# Altium footprint library D.PcbLib: 43 footprints (part 2 of 3)
Each footprint in its own frame and in the unit in brackets; x right, y up, seen from the top. Pads: shape width x height; smd on the part's side, far side on the other; paste and mask are expansions set on the pad; w line width, h text height; cw(c..) or ccw(c..) is an arc to the next point about the centre after c.
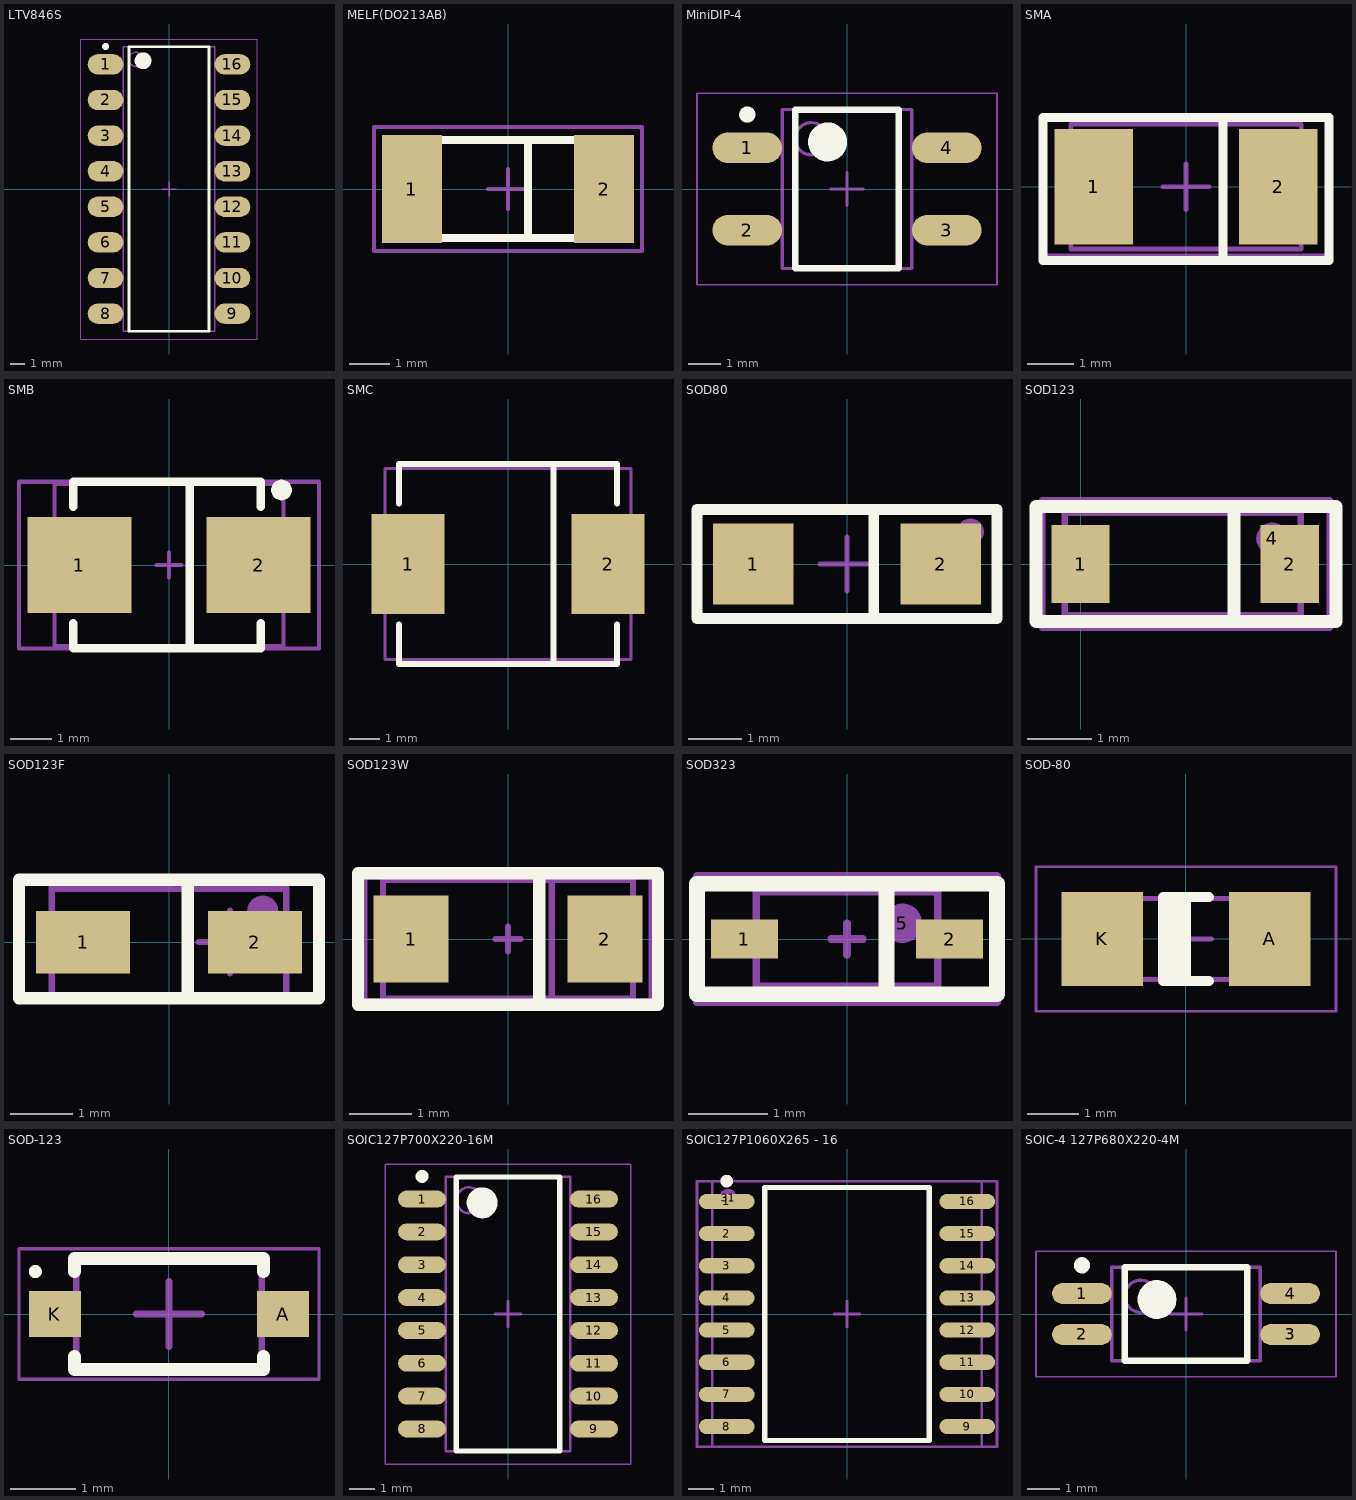
[diagram p1: the footprints below, top view; thin cyan lines are the x and y axes]

## LTV846S [mm] "SOP, 16-Leads, Body 19,84x6,25mm, Pitch 2,54mm, IPC Low Density"
height 4
pads (16):
  oval 2.55x1.45 smd: 1(-4.525,8.89) 2(-4.525,6.35) 3(-4.525,3.81) 4(-4.525,1.27) 5(-4.525,-1.27) 6(-4.525,-3.81) 7(-4.525,-6.35) 8(-4.525,-8.89) 9(4.525,-8.89) 10(4.525,-6.35) 11(4.525,-3.81) 12(4.525,-1.27) 13(4.525,1.27) 14(4.525,3.81) 15(4.525,6.35) 16(4.525,8.89)
Top Overlay:
  circle w0.6: c-1.85,9.15 r0.3
  circle w0.25: c-4.525,10.165 r0.125
  lines w0.2: -2.85,-10.15 2.85,-10.15 2.85,10.15 -2.85,10.15 -2.85,-10.15
3D:
  circle w0.1: c-2.35,9.25 r0.5
  lines w0.1: -3.25,-10.15 3.25,-10.15 3.25,10.15 -3.25,10.15 -3.25,-10.15
Border:
  lines w0.05: -6.3,-10.7 6.3,-10.7 6.3,10.7 -6.3,10.7 -6.3,-10.7
  lines w0.1: -0.5,0 0.5,0 ; 0,-0.5 0,0.5
3D body: height 4, standoff 0.1, extent -3.25,-10.15 3.25,10.15

## MELF(DO213AB) [mm]
height 2
pads (3):
  rect 1.5x2.7 smd: 1(-2.4,0) 2(2.4,0)
  round 0.5 on Mech1: ""(1.9,0.6)
Top Overlay:
  lines w0.2: 0.5,-1.225 0.5,1.225 ; -2.5,-1.225 -2.5,1.225 2.494,1.225 2.494,-1.225 2.467,-1.225 -2.5,-1.225
TopAssy:
  lines w0.1: 0.5,-1.25 0.5,1.2 ; -2.5,-1.25 2.5,-1.25 2.5,1.225 -2.5,1.225 -2.5,-1.25
Border:
  lines w0.1: -0.5,0 0.5,0 ; 0,-0.5 0,0.5 ; -3.35,-1.55 -3.35,1.55 3.35,1.55 3.35,-1.55 -3.35,-1.55
3D body "User Library-MELF.STEP": height 2.45, standoff -0.05, extent -2.513,-1.25 2.487,1.25

## MiniDIP-4 [mm] "SOP, 4-Leads, Body 4,70x3,80mm, Pitch 2,54mm, IPC Low Density"
height 3
pads (4):
  oval 2.15x0.95 smd: 1(-3.075,1.27) 2(-3.075,-1.27) 3(3.075,-1.27) 4(3.075,1.27)
Top Overlay:
  circle w0.25: c-3.075,2.295 r0.125
  circle w0.6: c-0.6,1.45 r0.3
  lines w0.2: -1.6,-2.45 -1.6,2.45 1.6,2.45 1.6,-2.45 -1.6,-2.45
3D:
  circle w0.1: c-1.1,1.55 r0.5
  lines w0.1: -2,-2.45 -2,2.45 2,2.45 2,-2.45 -2,-2.45
Border:
  lines w0.05: -4.625,-2.95 -4.625,2.95 4.625,2.95 4.625,-2.95 -4.625,-2.95
  lines w0.1: -0.5,0 0.5,0 ; 0,-0.5 0,0.5
3D body: height 3, standoff 0.2, extent -2,-2.45 2,2.45

## SMA [mm]
pads (3):
  rect 1.7x2.5 smd: 1(-2,0) 2(2,0)
  round 0.5 on Mech1: ""(2,0.9)
Top Overlay:
  lines w0.2: 0.8,-1.6 0.8,1.5 ; -3.1,-1.6 -3.1,1.5 3.1,1.5 3.1,-1.6 -3.1,-1.6
TopAssy:
  lines w0.1: -2.5,-1.35 -2.5,1.35 2.5,1.35 2.5,-1.35 -2.5,-1.35
Border:
  lines w0.1: -0.5,0 0.5,0 ; 0,-0.5 0,0.5 ; -3.1,-1.5 3.1,-1.5 3.1,1.5 -3.1,1.5 -3.1,-1.5
3D body "User Library-Diode Molded BodyDIOM5025X231N.STEP": height 2.28, standoff -0.03, extent -2.5,-1.35 2.5,1.35

## SMB [mm]
pads (3):
  rect 2.5x2.3 smd: 1(-2.15,0) 2(2.15,0)
  round 0.5 on Top Overlay: ""(2.7,1.8)
Top Overlay:
  lines w0.2: -2.3,-1.4 -2.3,-2 2.2,-2 2.2,-1.4 ; -2.3,1.4 -2.3,2 2.2,2 2.2,1.4 ; 0.5,-2 0.5,2
TopAssy:
  lines w0.1: 0.5,-1.95 0.5,1.95 ; -2.75,-1.95 2.75,-1.95 2.75,1.95 -2.75,1.95 -2.75,-1.95
Border:
  lines w0.1: -0.3,0 0.3,0 ; 0,-0.3 0,0.3 ; -3.6,-2 -3.6,2 3.6,2 3.6,-2 -3.6,-2
3D body "User Library-DIOM5539X24.STEP": height 2.45, standoff 0.03, extent -2.75,-1.95 2.75,1.95

## SMC [mm]
pads (2):
  rect 2.4x3.3 smd: 1(-3.3,0) 2(3.3,0)
Top Overlay:
  lines w0.2: -3.6,-2 -3.6,-3.3 3.6,-3.3 3.6,-2 ; -3.6,2 -3.6,3.3 3.6,3.3 3.6,2 ; 1.5,-3.3 1.5,3.3
TopAssy:
  lines w0.1: 1.5,-3.15 1.5,3.15 ; -4.064,-3.15 4.064,-3.15 4.064,3.15 -4.064,3.15 -4.064,-3.15
3D body "User Library-DO-214AB(SMC).STEP": height 2.67, standoff 0.03, extent -4.064,-3.15 4.064,3.15

## SOD80 [mm]
height 2
pads (3):
  rect 1.5x1.5 smd: 1(-1.75,0) 2(1.75,0)
  round 0.5 on Mech1: ""(2.3,0.6)
Top Overlay:
  lines w0.2: 0.5,-1.016 0.5,1 ; -2.794,-1.016 -2.794,1.016 2.794,1.016 2.794,-1.016 -2.794,-1.016
TopAssy:
  lines w0.1: 0.5,-1.016 0.5,1.016 ; -2.794,-1.016 -2.794,1.016 2.794,1.016 2.794,-1.016 -2.794,-1.016
Border:
  lines w0.1: -0.5,0 0.5,0 ; 0,-0.5 0,0.5 ; -2.794,-1.016 2.794,-1.016 2.794,1.016 -2.794,1.016 -2.794,-1.016
3D body "SOD80-2.step": height 1.52, standoff -0.02, extent -1.676,-0.777 1.677,0.762

## SOD123 [mm]
pads (3):
  rect 0.91x1.22 smd: 1(0,0) 2(3.275,0)
  round 0.5 on Mech1: 4(3,0.4)
Top Overlay:
  lines w0.2: 2.4,-0.9 2.4,0.9 ; -0.7,-0.9 4,-0.9 4,0.9 -0.7,0.9 -0.7,-0.9
TopAssy:
  lines w0.1: -0.249,-0.8 3.449,-0.8 3.449,0.8 -0.249,0.8 -0.249,-0.8
Border:
  lines w0.1: -0.6,-1 3.9,-1 3.9,1 -0.6,1 -0.6,-1
3D body "User Library-SOD-123.STEP": height 1.25, standoff 0, extent -0.249,-0.8 3.449,0.8

## SOD123F [mm] "Schottky Diode, 2-Leads, Body 3x2mm, 0.4W"
height 1
pads (3):
  rect 1.5x1 smd: 1(-1.375,0) 2(1.375,0)
  round 0.5 on Mech1: ""(1.5,0.5)
Top Overlay:
  lines w0.2: 0.3,-0.9 0.3,1 ; -2.4,-0.9 -2.4,1 2.3,1 2.4,1 2.4,-0.9 -2.4,-0.9
TopAssy:
  lines w0.1: -1.875,-0.85 1.875,-0.85 1.875,0.85 -1.875,0.85 -1.875,-0.85
Border:
  lines w0.1: 0.475,0 1.475,0 ; 0.975,-0.5 0.975,0.5 ; -1.875,-0.9 1.875,-0.9 1.875,0.9 -1.875,0.9 -1.875,-0.9
3D body "SOD123F.STEP": height 1.23, standoff 0.02, extent -1.875,-0.85 1.875,0.85

## SOD123W [mm]
pads (2):
  rect 1.2x1.4 smd: 1(-1.55,0) 2(1.55,0)
Top Overlay:
  lines w0.2: 0.5,-1.05 0.5,1.05 ; -2.4,-1.05 2.4,-1.05 2.4,1.05 -2.4,1.05 -2.4,-1.05
TopAssy:
  lines w0.1: 0.7,-0.95 0.7,0.95 ; 2,-0.95 -2,-0.95 -2,0.95 2,0.95 ; 2,-0.95 2,-0.95 ; 2,-0.95 2,0.95 ; 2,0.95 2,0.95
Border:
  lines w0.1: -0.2,0 0.2,0 ; 0,-0.2 0,0.2 ; -2.3,-1 -2.3,1 2.3,1 2.3,-1 -2.3,-1
3D body "User Library-SOD123W.STEP": height 1.1, standoff -0.01, extent -2,-0.95 2,0.95

## SOD323 [mm]
pads (3):
  rect 0.85x0.5 smd: 1(-1.3,0) 2(1.3,0)
  round 0.5 on Mech1: 5(0.7,0.2)
Top Overlay:
  lines w0.2: 0.5,-0.7 0.5,0.7 ; -1.9,-0.7 1.9,-0.7 1.9,0.7 -1.9,0.7 -1.9,-0.7
TopAssy:
  lines w0.1: -1.15,-0.6 -1.15,0.6 1.15,0.6 1.15,-0.6 -1.15,-0.6
Border:
  lines w0.1: -0.2,0 0.2,0 ; 0,-0.2 0,0.2 ; -1.9,-0.8 1.9,-0.8 1.9,0.8 -1.9,0.8 -1.9,-0.8
3D body "User Library-1N4148WS.STEP": height 1.04, standoff -0.06, extent -1.15,-0.6 1.15,0.6

## SOD-80 [mm] "MELF Diode, 2-Leads, Body 3,50x1,50mm, IPC Low Density"
height 1.6
pads (2):
  rect 1.6x1.85 smd: A(1.65,0) K(-1.65,0)
Top Overlay:
  rectangle: -0.45,-0.825 0.1,0.825
  lines w0.2: 0.45,-0.825 -0.45,-0.825 -0.45,0.825 0.45,0.825
3D:
  lines w0.1: -1.85,-0.8 -1.85,0.8 1.85,0.8 1.85,-0.8 -1.85,-0.8
Border:
  lines w0.05: -2.95,-1.425 -2.95,1.425 2.95,1.425 2.95,-1.425 -2.95,-1.425
  lines w0.1: -0.5,0 0.5,0 ; 0,-0.5 0,0.5
3D body: height 1.59, standoff 0, extent -1.85,-0.8 -1.38,0.797
3D body: height 1.58, standoff 0.04, extent -0.78,-0.771 -0.18,0.768
3D body: height 1.58, standoff 0.04, extent -1.38,-0.77 1.38,0.767
3D body: height 1.59, standoff 0, extent 1.38,-0.8 1.85,0.797

## SOD-123 [mm] "SODFL, 2-Leads, Body 1,55x3,70mm, IPC Medium Density"
height 1.35
pads (2):
  rect 0.8x0.7 smd: A(1.75,0) K(-1.75,0)
Top Overlay:
  circle w0.1: c-2.05,0.65 r0.05
  lines w0.2: -1.45,-0.65 -1.45,-0.85 1.45,-0.85 1.45,-0.65 ; -1.45,0.65 -1.45,0.85 1.45,0.85 1.45,0.65
3D:
  lines w0.1: -1.425,-0.85 -1.425,0.85 1.425,0.85 1.425,-0.85 -1.425,-0.85
Border:
  lines w0.05: -2.3,-1 -2.3,1 2.3,1 2.3,-1 -2.3,-1
  lines w0.1: -0.5,0 0.5,0 ; 0,-0.5 0,0.5
3D body: height 1.35, standoff 0, extent -1.425,-0.85 1.425,0.85

## SOIC127P700X220-16M [mm] "SOIC, 16-Leads, Body 10,30x4,60mm, Pitch 1,27mm, IPC Low Density"
height 2.2
pads (16):
  oval 1.85x0.65 smd: 1(-3.325,4.445) 2(-3.325,3.175) 3(-3.325,1.905) 4(-3.325,0.635) 5(-3.325,-0.635) 6(-3.325,-1.905) 7(-3.325,-3.175) 8(-3.325,-4.445) 9(3.325,-4.445) 10(3.325,-3.175) 11(3.325,-1.905) 12(3.325,-0.635) 13(3.325,0.635) 14(3.325,1.905) 15(3.325,3.175) 16(3.325,4.445)
Top Overlay:
  circle w0.6: c-1,4.3 r0.3
  circle w0.25: c-3.325,5.32 r0.125
  lines w0.2: -2,-5.3 2,-5.3 2,5.3 -2,5.3 -2,-5.3
3D:
  circle w0.1: c-1.5,4.4 r0.5
  lines w0.1: -2.4,-5.3 2.4,-5.3 2.4,5.3 -2.4,5.3 -2.4,-5.3
Border:
  lines w0.05: -4.75,-5.8 4.75,-5.8 4.75,5.8 -4.75,5.8 -4.75,-5.8
  lines w0.1: -0.5,0 0.5,0 ; 0,-0.5 0,0.5
3D body "SOIC127P700X220-16M.step": height 2.2, standoff 0, extent -3.5,-5.3 3.5,5.3

## SOIC127P1060X265 - 16 [mm] "Small Outline Integrated Circuit Pitch 1.27mm Pin Quantity 16"
height 2.65
pads (17):
  oval 2.2x0.6 smd: 1(-4.75,4.445) 2(-4.75,3.175) 3(-4.75,1.905) 4(-4.75,0.635) 5(-4.75,-0.635) 6(-4.75,-1.905) 7(-4.75,-3.175) 8(-4.75,-4.445) 9(4.75,-4.445) 10(4.75,-3.175) 11(4.75,-1.905) 12(4.75,-0.635) 13(4.75,0.635) 14(4.75,1.905) 15(4.75,3.175) 16(4.75,4.445)
  round 0.7 on Mech1: 31(-4.7,4.6)
Top Overlay:
  circle w0.25: c-4.75,5.25 r0.125
  lines w0.2: -3.25,-5 3.25,-5 3.25,5 -3.25,5 -3.25,-5
TopAssy:
  lines w0.1: -5.315,-5.25 -5.315,5.25 5.315,5.25 5.315,-5.25 -5.315,-5.25
Border:
  lines w0.1: -0.5,0 0.5,0 ; 0,-0.5 0,0.5 ; -5.925,-5.25 -5.925,5.25 5.925,5.25 5.925,-5.25 -5.925,-5.25
3D body "User Library-SOIC16_Wide_JEDEC_MS-013AA.STEP": height 2.62, standoff -0.03, extent -5.315,-5.25 5.315,5.25

## SOIC-4 127P680X220-4M [mm] "SOIC, 4-Leads, Body 2,60x4,40mm, Pitch 1,27mm, IPC Low Density"
height 2.2
pads (4):
  oval 1.85x0.65 smd: 1(-3.225,0.635) 2(-3.225,-0.635) 3(3.225,-0.635) 4(3.225,0.635)
Top Overlay:
  circle w0.25: c-3.225,1.51 r0.125
  circle w0.6: c-0.9,0.45 r0.3
  lines w0.2: -1.9,-1.45 -1.9,1.45 1.9,1.45 1.9,-1.45 -1.9,-1.45
3D:
  circle w0.1: c-1.4,0.55 r0.5
  lines w0.1: -2.3,-1.45 -2.3,1.45 2.3,1.45 2.3,-1.45 -2.3,-1.45
Border:
  lines w0.05: -4.65,-1.95 -4.65,1.95 4.65,1.95 4.65,-1.95 -4.65,-1.95
  lines w0.1: -0.5,0 0.5,0 ; 0,-0.5 0,0.5
3D body: height 2.2, standoff 0.1, extent -2.3,-1.45 2.3,1.45